# Altium schematic symbol library MICREL MIC2295 5PIN.SchLib: 1 symbol
Pins are listed as number, name and electrical type; pins without a type are passive.

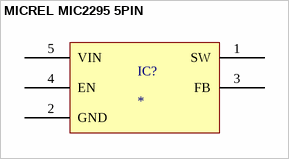
[diagram p0: symbol MICREL MIC2295 5PIN]

## MICREL MIC2295 5PIN
designator IC?
pins: 1 SW, 2 GND, 3 FB, 4 EN, 5 VIN